# EAGLE library part EPM7160-?100 (library altera_SGQ)
EPM7160E MAX 7000 family
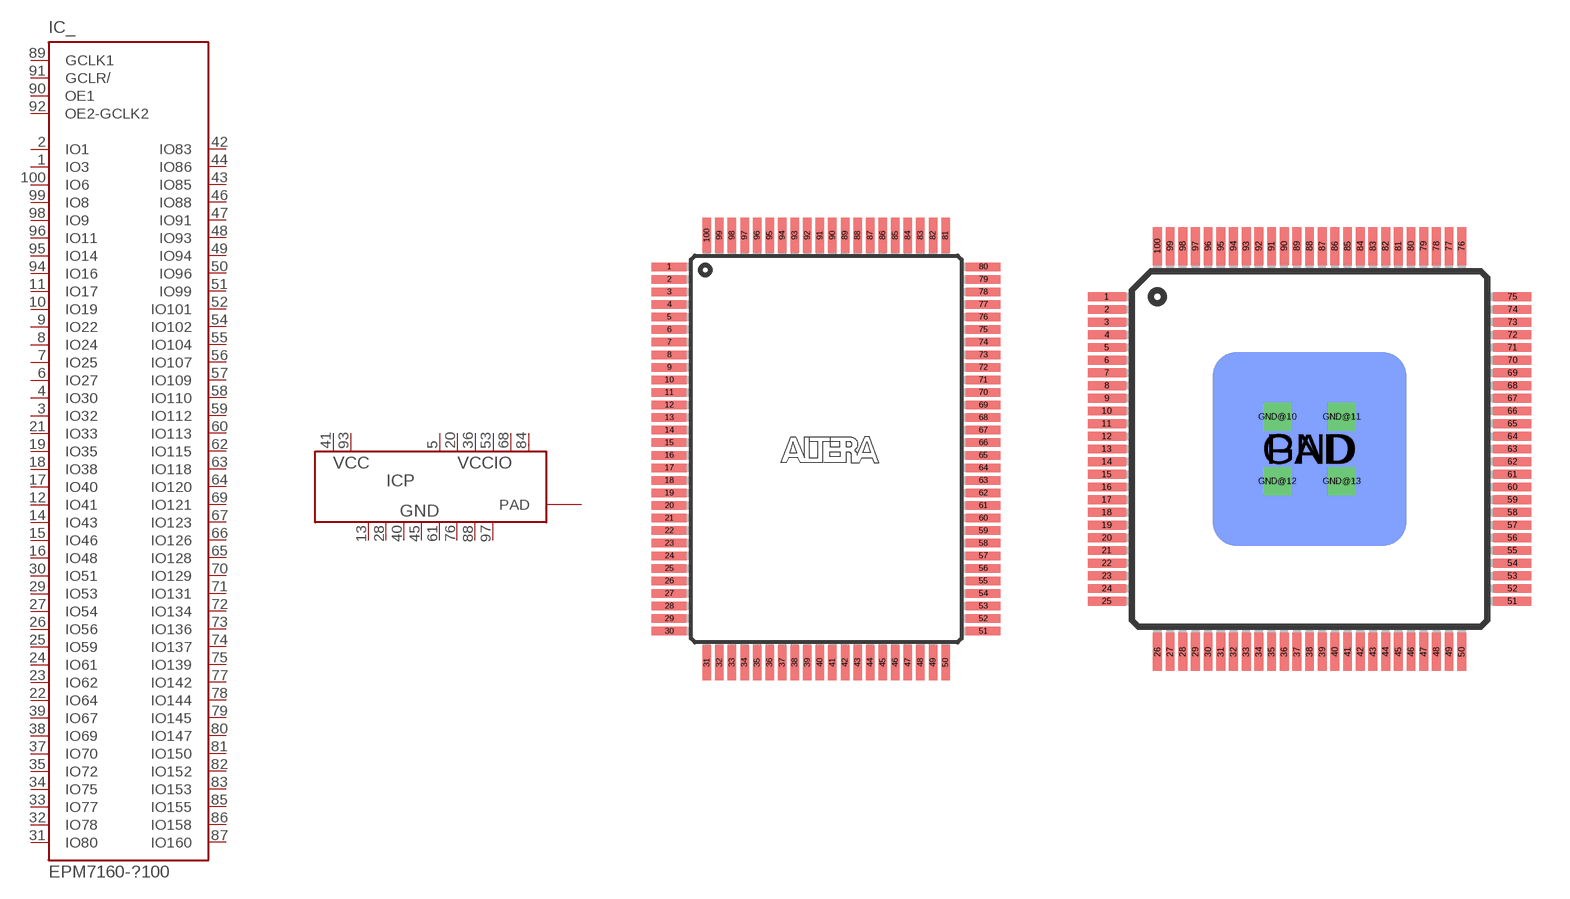
[diagram p39: symbol with the pads of PQFP100; footprints PQFP100, TQFP100]

Designator prefix IC; gates _=7160P100 P=PWR8-2-6

## EPM7160-P100 (MPN: EPM7160SQC160-10N; OC_FARNELL: 1549437; OC_NEWARK: 51R9800)  [PQFP100]
1  _:IO3
2  _:IO1
3  _:IO32
4  _:IO30
5  P:VCCIO  pwr
6  _:IO27
7  _:IO25
8  _:IO24
9  _:IO22
10  _:IO19
11  _:IO17
12  _:IO41
13  P:GND  pwr
14  _:IO43
15  _:IO46
16  _:IO48
17  _:IO40
18  _:IO38
19  _:IO35
20  P:VCCIO  pwr
21  _:IO33
22  _:IO64
23  _:IO62
24  _:IO61
25  _:IO59
26  _:IO56
27  _:IO54
28  P:GND  pwr
29  _:IO53
30  _:IO51
31  _:IO80
32  _:IO78
33  _:IO77
34  _:IO75
35  _:IO72
36  P:VCCIO  pwr
37  _:IO70
38  _:IO69
39  _:IO67
40  P:GND  pwr
41  P:VCC  pwr
42  _:IO83
43  _:IO85
44  _:IO86
45  P:GND  pwr
46  _:IO88
47  _:IO91
48  _:IO93
49  _:IO94
50  _:IO96
51  _:IO99
52  _:IO101
53  P:VCCIO  pwr
54  _:IO102
55  _:IO104
56  _:IO107
57  _:IO109
58  _:IO110
59  _:IO112
60  _:IO113
61  P:GND  pwr
62  _:IO115
63  _:IO118
64  _:IO120
65  _:IO128
66  _:IO126
67  _:IO123
68  P:VCCIO  pwr
69  _:IO121
70  _:IO129
71  _:IO131
72  _:IO134
73  _:IO136
74  _:IO137
75  _:IO139
76  P:GND  pwr
77  _:IO142
78  _:IO144
79  _:IO145
80  _:IO147
81  _:IO150
82  _:IO152
83  _:IO153
84  P:VCCIO  pwr
85  _:IO155
86  _:IO158
87  _:IO160
88  P:GND  pwr
89  _:GCLK1  in
90  _:OE1  in
91  _:GCLR/  in
92  _:OE2-GCLK2  in
93  P:VCC  pwr
94  _:IO16
95  _:IO14
96  _:IO11
97  P:GND  pwr
98  _:IO9
99  _:IO8
100  _:IO6

## EPM7160-T100 (MPN: EPM7160STC100-10N; OC_FARNELL: 1549429; OC_NEWARK: 51R9804)  [TQFP100]
1  _:IO32
2  _:IO30
3  P:VCCIO  pwr
4  _:IO27
5  _:IO25
6  _:IO24
7  _:IO22
8  _:IO19
9  _:IO17
10  _:IO41
11  P:GND  pwr
12  _:IO43
13  _:IO46
14  _:IO48
15  _:IO40
16  _:IO38
17  _:IO35
18  P:VCCIO  pwr
19  _:IO33
20  _:IO64
21  _:IO62
22  _:IO61
23  _:IO59
24  _:IO56
25  _:IO54
26  P:GND  pwr
27  _:IO53
28  _:IO51
29  _:IO80
30  _:IO78
31  _:IO77
32  _:IO75
33  _:IO72
34  P:VCCIO  pwr
35  _:IO70
36  _:IO69
37  _:IO67
38  P:GND  pwr
39  P:VCC  pwr
40  _:IO83
41  _:IO85
42  _:IO86
43  P:GND  pwr
44  _:IO88
45  _:IO91
46  _:IO93
47  _:IO94
48  _:IO96
49  _:IO99
50  _:IO101
51  P:VCCIO  pwr
52  _:IO102
53  _:IO104
54  _:IO107
55  _:IO109
56  _:IO110
57  _:IO112
58  _:IO113
59  P:GND  pwr
60  _:IO115
61  _:IO118
62  _:IO120
63  _:IO128
64  _:IO126
65  _:IO123
66  P:VCCIO  pwr
67  _:IO121
68  _:IO129
69  _:IO131
70  _:IO134
71  _:IO136
72  _:IO137
73  _:IO139
74  P:GND  pwr
75  _:IO142
76  _:IO144
77  _:IO145
78  _:IO147
79  _:IO150
80  _:IO152
81  _:IO153
82  P:VCCIO  pwr
83  _:IO155
84  _:IO158
85  _:IO160
86  P:GND  pwr
87  _:GCLK1  in
88  _:OE1  in
89  _:GCLR/  in
90  _:OE2-GCLK2  in
91  P:VCC  pwr
92  _:IO16
93  _:IO14
94  _:IO11
95  P:GND  pwr
96  _:IO9
97  _:IO8
98  _:IO6
99  _:IO3
100  _:IO1
GND  P:GND  pwr
GND@10  P:GND  pwr
GND@11  P:GND  pwr
GND@12  P:GND  pwr
GND@13  P:GND  pwr
PAD  P:PAD

## Footprint PQFP100 (pad centres in mm)
Plastic Quad Flat Pack
smd 1.8 x 0.44: 1 -8.125,9.425; 2 -8.125,8.775; 3 -8.125,8.125; 4 -8.125,7.475; 5 -8.125,6.825; 6 -8.125,6.175; 7 -8.125,5.525; 8 -8.125,4.875; 9 -8.125,4.225; 10 -8.125,3.575; 11 -8.125,2.925; 12 -8.125,2.275; 13 -8.125,1.625; 14 -8.125,0.975; 15 -8.125,0.325; 16 -8.125,-0.325; 17 -8.125,-0.975; 18 -8.125,-1.625; 19 -8.125,-2.275; 20 -8.125,-2.925; 21 -8.125,-3.575; 22 -8.125,-4.225; 23 -8.125,-4.875; 24 -8.125,-5.525; 25 -8.125,-6.175; 26 -8.125,-6.825; 27 -8.125,-7.475; 28 -8.125,-8.125; 29 -8.125,-8.775; 30 -8.125,-9.425; 51 8.125,-9.425; 52 8.125,-8.775; 53 8.125,-8.125; 54 8.125,-7.475; 55 8.125,-6.825; 56 8.125,-6.175; 57 8.125,-5.525; 58 8.125,-4.875; 59 8.125,-4.225; 60 8.125,-3.575; 61 8.125,-2.925; 62 8.125,-2.275; 63 8.125,-1.625; 64 8.125,-0.975; 65 8.125,-0.325; 66 8.125,0.325; 67 8.125,0.975; 68 8.125,1.625; 69 8.125,2.275; 70 8.125,2.925; 71 8.125,3.575; 72 8.125,4.225; 73 8.125,4.875; 74 8.125,5.525; 75 8.125,6.175; 76 8.125,6.825; 77 8.125,7.475; 78 8.125,8.125; 79 8.125,8.775; 80 8.125,9.425
smd 0.44 x 1.8: 31 -6.175,-11.05; 32 -5.525,-11.05; 33 -4.875,-11.05; 34 -4.225,-11.05; 35 -3.575,-11.05; 36 -2.925,-11.05; 37 -2.275,-11.05; 38 -1.625,-11.05; 39 -0.975,-11.05; 40 -0.325,-11.05; 41 0.325,-11.05; 42 0.975,-11.05; 43 1.625,-11.05; 44 2.275,-11.05; 45 2.925,-11.05; 46 3.575,-11.05; 47 4.225,-11.05; 48 4.875,-11.05; 49 5.525,-11.05; 50 6.175,-11.05; 81 6.175,11.05; 82 5.525,11.05; 83 4.875,11.05; 84 4.225,11.05; 85 3.575,11.05; 86 2.925,11.05; 87 2.275,11.05; 88 1.625,11.05; 89 0.975,11.05; 90 0.325,11.05; 91 -0.325,11.05; 92 -0.975,11.05; 93 -1.625,11.05; 94 -2.275,11.05; 95 -2.925,11.05; 96 -3.575,11.05; 97 -4.225,11.05; 98 -4.875,11.05; 99 -5.525,11.05; 100 -6.175,11.05

## Footprint TQFP100 (pad centres in mm)
Plastic Thin Quad Flat Pack
smd 1.5 x 0.35: 1 -8,6; 2 -8,5.5; 3 -8,5; 4 -8,4.5; 5 -8,4; 6 -8,3.5; 7 -8,3; 8 -8,2.5; 9 -8,2; 10 -8,1.5; 11 -8,1; 12 -8,0.5; 13 -8,0; 14 -8,-0.5; 15 -8,-1; 16 -8,-1.5; 17 -8,-2; 18 -8,-2.5; 19 -8,-3; 20 -8,-3.5; 21 -8,-4; 22 -8,-4.5; 23 -8,-5; 24 -8,-5.5; 25 -8,-6; 51 8,-6; 52 8,-5.5; 53 8,-5; 54 8,-4.5; 55 8,-4; 56 8,-3.5; 57 8,-3; 58 8,-2.5; 59 8,-2; 60 8,-1.5; 61 8,-1; 62 8,-0.5; 63 8,0; 64 8,0.5; 65 8,1; 66 8,1.5; 67 8,2; 68 8,2.5; 69 8,3; 70 8,3.5; 71 8,4; 72 8,4.5; 73 8,5; 74 8,5.5; 75 8,6
smd 0.35 x 1.5: 26 -6,-8; 27 -5.5,-8; 28 -5,-8; 29 -4.5,-8; 30 -4,-8; 31 -3.5,-8; 32 -3,-8; 33 -2.5,-8; 34 -2,-8; 35 -1.5,-8; 36 -1,-8; 37 -0.5,-8; 38 0,-8; 39 0.5,-8; 40 1,-8; 41 1.5,-8; 42 2,-8; 43 2.5,-8; 44 3,-8; 45 3.5,-8; 46 4,-8; 47 4.5,-8; 48 5,-8; 49 5.5,-8; 50 6,-8; 76 6,8; 77 5.5,8; 78 5,8; 79 4.5,8; 80 4,8; 81 3.5,8; 82 3,8; 83 2.5,8; 84 2,8; 85 1.5,8; 86 1,8; 87 0.5,8; 88 0,8; 89 -0.5,8; 90 -1,8; 91 -1.5,8; 92 -2,8; 93 -2.5,8; 94 -3,8; 95 -3.5,8; 96 -4,8; 97 -4.5,8; 98 -5,8; 99 -5.5,8; 100 -6,8
smd 7.62 x 7.62 bottom: GND 0,0
drill 0.6 square: GND@10 -1.27,1.27; GND@11 1.27,1.27; GND@12 -1.27,-1.27; GND@13 1.27,-1.27
smd 7.62 x 7.62: PAD 0,0